# Altium footprint library Batt_Linx_BAT-HLD-001_eec_0.PcbLib: 1 footprints
Each footprint in its own frame and in the unit in brackets; x right, y up, seen from the top. Pads: shape width x height; smd on the part's side, far side on the other; paste and mask are expansions set on the pad; w line width, h text height; cw(c..) or ccw(c..) is an arc to the next point about the centre after c.
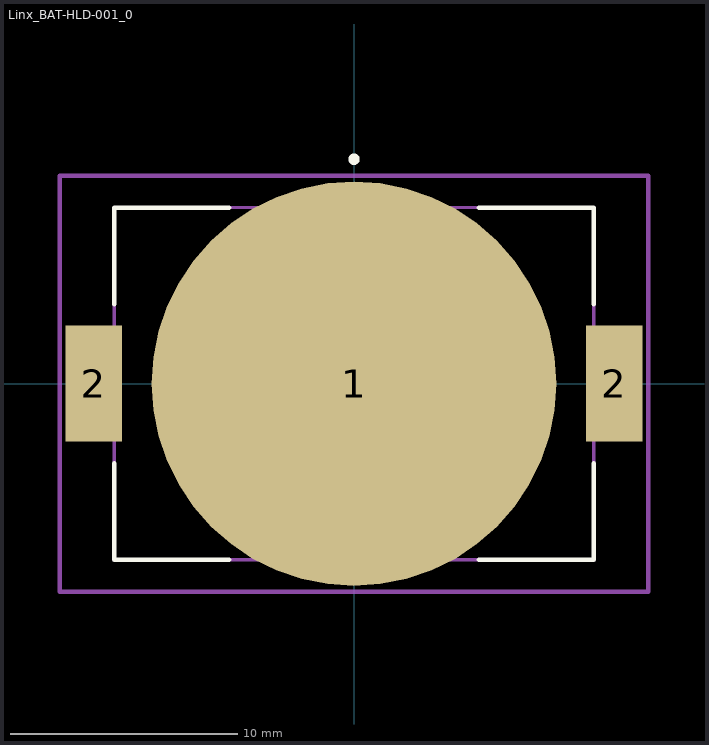
[diagram p0: the footprint, top view; thin cyan lines are the x and y axes]

## Linx_BAT-HLD-001_0 [mm]
pads (3):
  round 17.8 smd paste+0 mask+0: 1(0,0)
  rect 2.5x5.1 smd paste+0 mask+0: 2(-11.45,0) 2(11.45,0)
Top Overlay:
  circle w0.25: c0,9.875 r0.125
  lines w0.2: -10.55,-3.5 -10.55,-7.75 -5.5,-7.75 ; -10.55,3.5 -10.55,7.75 -5.5,7.75 ; 5.5,-7.75 10.55,-7.75 10.55,-3.5 ; 5.5,7.75 10.55,7.75 10.55,3.5
Mechanical 10:
  lines w0.2: -12.95,-9.15 12.95,-9.15 12.95,9.15 -12.95,9.15 -12.95,-9.15
  text ".Designator" at 0,0 h1
Mechanical 12:
  lines w0.15: -10.55,-7.75 10.55,-7.75 10.55,7.75 -10.55,7.75 -10.55,-7.75
Mechanical 15:
  lines w0.1: -0.5,0 0.5,0 ; 0,-0.5 0,0.5
  lines w0.2: -12.95,-9.15 12.95,-9.15 12.95,9.15 -12.95,9.15 -12.95,-9.15
3D body "Batt_Linx_BAT-HLD-001_eec.STEP": height 0.25, standoff 0, extent -12.95,-9.15 12.95,9.15